# EAGLE library part LMR34206-Q1 (library LMR34206-Q1 - Synchronous Step-Down Converter)
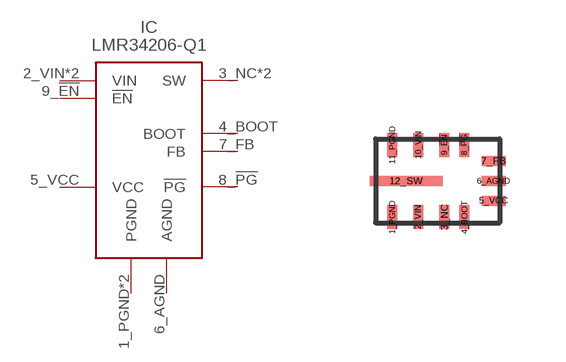
[diagram p0: symbol with the pads of VQFN-HR(12); footprint VQFN-HR(12)]

Designator prefix IC

## LMR34206-Q1  [VQFN-HR(12)]
1_PGND  PGND  pwr
2_VIN  VIN  pwr
3_NC  SW
4_BOOT  BOOT
5_VCC  VCC  pwr
6_AGND  AGND  pwr
7_FB  FB
8_!PG!  !PG!  out
9_!EN!  !EN!  in
10_VIN  VIN  pwr
11_PGND  PGND  pwr
12_SW  SW

## Footprint VQFN-HR(12) (pad centres in mm)
smd 0.25 x 0.6: 1_PGND -1.135,-0.909; 2_VIN -0.485,-0.909; 3_NC 0.17,-0.911; 4_BOOT 0.67,-0.911; 8_!PG! 0.664,0.901; 9_!EN! 0.164,0.901; 10_VIN -0.485,0.899; 11_PGND -1.135,0.899
smd 0.6 x 0.25: 5_VCC 1.402,-0.5; 6_AGND 1.4,0; 7_FB 1.402,0.5
smd 1.825 x 0.25: 12_SW -0.788,0